# Altium footprint library SM_SRU8028_PowerInductor.PcbLib: 1 footprints
Each footprint in its own frame and in the unit in brackets; x right, y up, seen from the top. Pads: shape width x height; smd on the part's side, far side on the other; paste and mask are expansions set on the pad; w line width, h text height; cw(c..) or ccw(c..) is an arc to the next point about the centre after c.
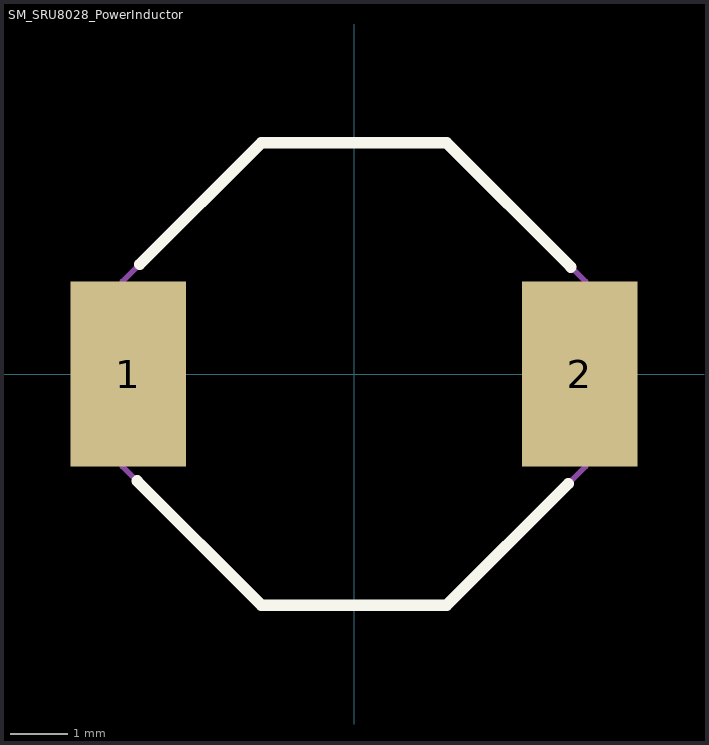
[diagram p0: the footprint, top view; thin cyan lines are the x and y axes]

## SM_SRU8028_PowerInductor [mm] "SMD Inductor, 2-Leads, Body 8.0 x 8.0 mm"
height 2
pads (2):
  rect 2x3.2 smd: 1(-3.9,0) 2(3.9,0)
Top Overlay:
  lines w0.2: -3.75,-1.85 -1.6,-4 1.6,-4 3.7,-1.9 ; -3.7,1.9 -1.6,4 1.6,4 3.75,1.85
Mechanical 1:
  lines w0.1: -4,-1.6 -1.6,-4 1.6,-4 4,-1.6 4,1.6 1.6,4 -1.6,4 -4,1.6 -4,-1.6
3D body: height 4.7, standoff 2.9, extent -4,-4 4,4